# Altium footprint library diode.PCBLIB: 211 footprints (part 8 of 14)
Each footprint in its own frame and in the unit in brackets; x right, y up, seen from the top. Pads: shape width x height; smd on the part's side, far side on the other; paste and mask are expansions set on the pad; w line width, h text height; cw(c..) or ccw(c..) is an arc to the next point about the centre after c.
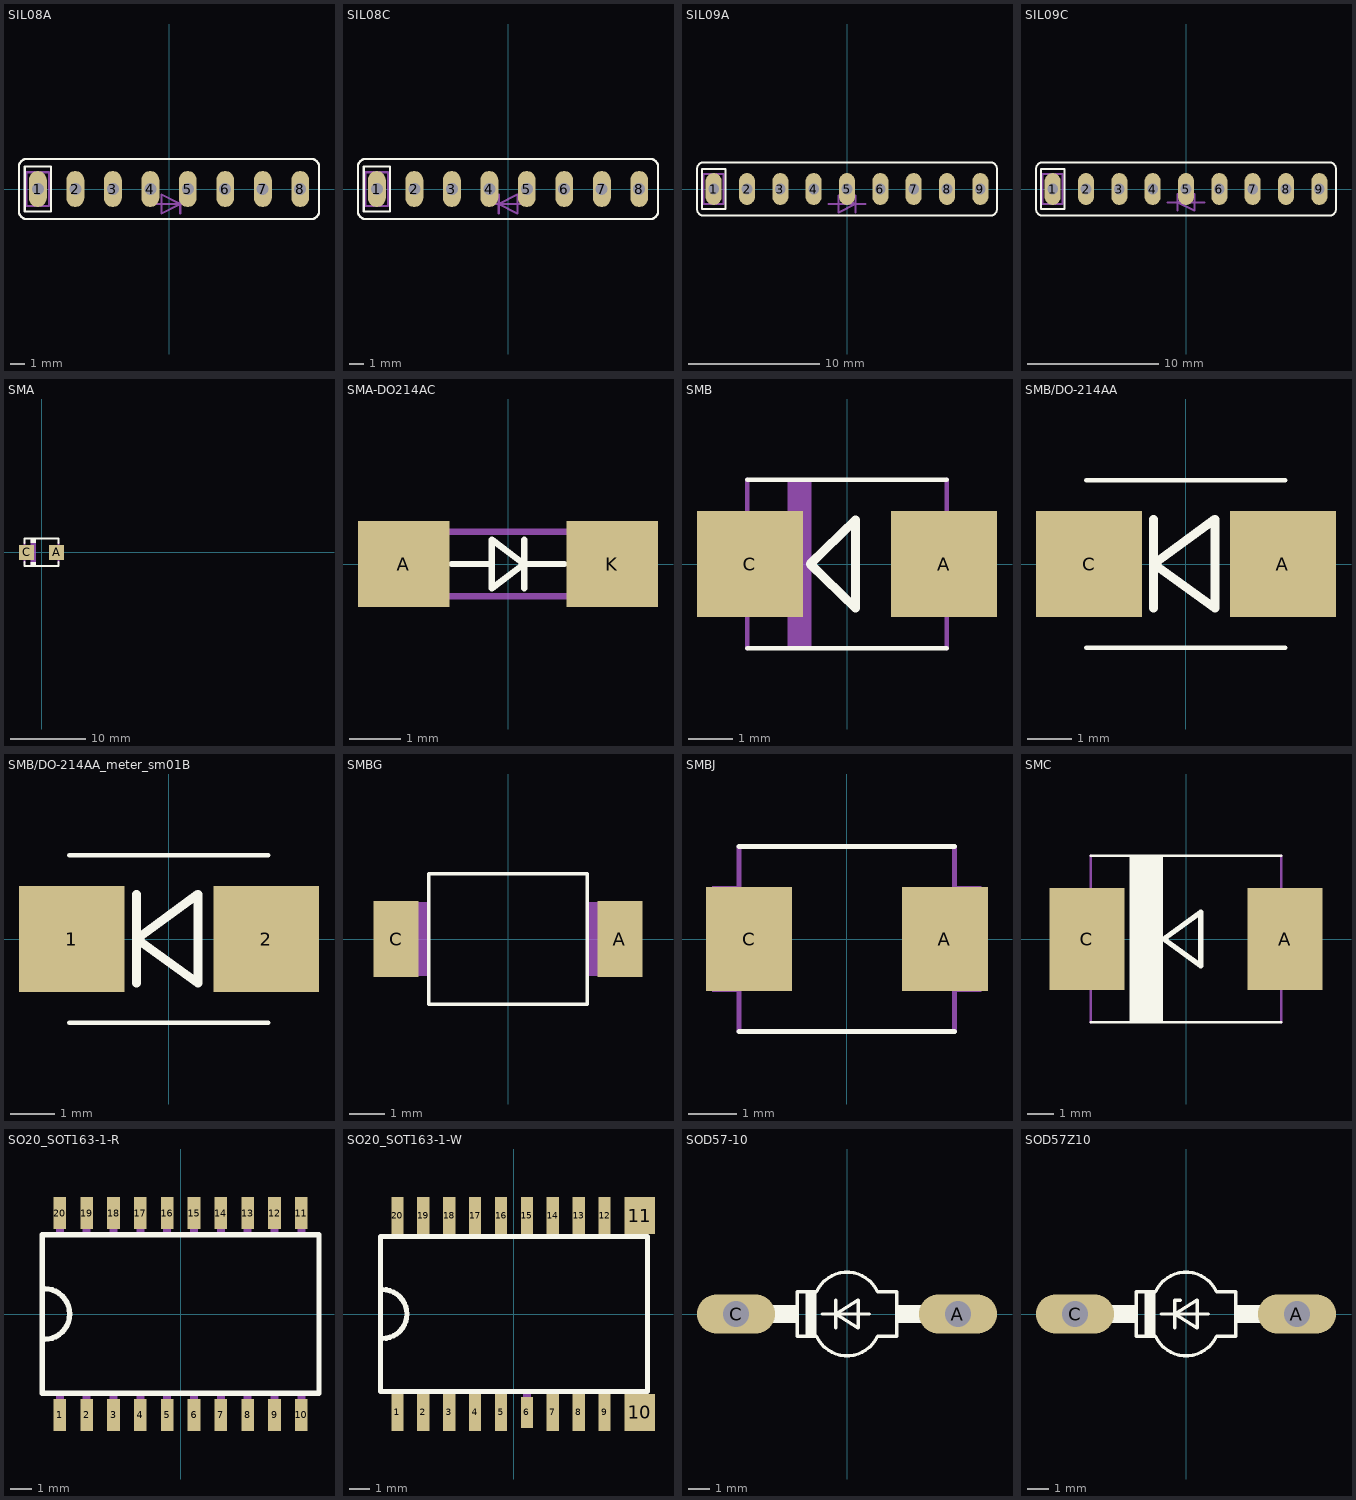
[diagram p7: the footprints below, top view; thin cyan lines are the x and y axes]

## SIL08A [mil]
pads (8):
  oval 48x96 hole 32: 1(-350,0) 2(-250,0) 3(-150,0) 4(-50,0) 5(50,0) 6(150,0) 7(250,0) 8(350,0)
Top Overlay:
  lines w6: -400,-60 ccw(c-380,-60) -380,-80 380,-80 ccw(c380,-60) 400,-60 400,60 ccw(c380,60) 380,80 -380,80 ccw(c-380,60) -400,60 -400,-60 ; -385,-60 -385,60 -315,60 -315,-60 -385,-60
Mechanical 4:
  lines w6: -50,-40 -20,-40 ; 30,-65 30,-40 ; 30,-15 30,-40 ; 60,-40 30,-40 ; -20,-40 30,-40 ; -20,-40 -20,-15 30,-40 ; -20,-40 -20,-65 30,-40 ; -380,-45 -380,45 -320,45 -320,-45 -380,-45

## SIL08C [mil]
pads (8):
  oval 48x96 hole 32: 1(-350,0) 2(-250,0) 3(-150,0) 4(-50,0) 5(50,0) 6(150,0) 7(250,0) 8(350,0)
Top Overlay:
  lines w6: -400,-60 ccw(c-380,-60) -380,-80 380,-80 ccw(c380,-60) 400,-60 400,60 ccw(c380,60) 380,80 -380,80 ccw(c-380,60) -400,60 -400,-60 ; -385,-60 -385,60 -315,60 -315,-60 -385,-60
Mechanical 4:
  lines w6: -55,-40 -25,-40 ; -25,-65 -25,-40 ; -25,-15 -25,-40 ; 55,-40 25,-40 ; -25,-40 25,-40 ; -25,-40 25,-65 25,-40 ; -25,-40 25,-15 25,-40 ; -380,-45 -380,45 -320,45 -320,-45 -380,-45

## SIL09A [mil]
pads (9):
  oval 48x96 hole 32: 1(-400,0) 2(-300,0) 3(-200,0) 4(-100,0) 5(0,0) 6(100,0) 7(200,0) 8(300,0) 9(400,0)
Top Overlay:
  lines w6: -450,-60 ccw(c-430,-60) -430,-80 430,-80 ccw(c430,-60) 450,-60 450,60 ccw(c430,60) 430,80 -430,80 ccw(c-430,60) -450,60 -450,-60 ; -435,-60 -435,60 -365,60 -365,-60 -435,-60
Mechanical 4:
  lines w6: -55,-45 -25,-45 ; 25,-70 25,-45 ; 25,-20 25,-45 ; 55,-45 25,-45 ; -25,-45 25,-45 ; -25,-45 -25,-20 25,-45 ; -25,-45 -25,-70 25,-45 ; -430,-45 -430,45 -370,45 -370,-45 -430,-45

## SIL09C [mil]
pads (9):
  oval 48x96 hole 32: 1(-400,0) 2(-300,0) 3(-200,0) 4(-100,0) 5(0,0) 6(100,0) 7(200,0) 8(300,0) 9(400,0)
Top Overlay:
  lines w6: -450,-60 ccw(c-430,-60) -430,-80 430,-80 ccw(c430,-60) 450,-60 450,60 ccw(c430,60) 430,80 -430,80 ccw(c-430,60) -450,60 -450,-60 ; -435,-60 -435,60 -365,60 -365,-60 -435,-60
Mechanical 4:
  lines w6: -55,-40 -25,-40 ; -25,-65 -25,-40 ; -25,-15 -25,-40 ; 55,-40 25,-40 ; -25,-40 25,-40 ; -25,-40 25,-65 25,-40 ; -25,-40 25,-15 25,-40 ; -430,-45 -430,45 -370,45 -370,-45 -430,-45

## SMA [mm]
pads (2):
  rect 2x2 smd: A(2,0) C(-2,0)
Top Overlay:
  rectangle: -1.5,1.25 -0.75,1.75
  rectangle: -1.5,-1.75 -0.75,-1.25
  lines w0.254: -2.25,-1.25 -2.25,-1.825 2.25,-1.825 cw(c19.549,-1.537) 2.25,-1.25 ; -2.25,1.25 -2.25,1.825 2.25,1.825 2.25,1.25
Mechanical 4:
  rectangle: 2.38,-0.825 2.8,0.8
  rectangle: -2.8,-0.8 -2.38,0.8
  rectangle: -1.5,-1.75 -0.75,1.75
  lines w0.254: -2.25,-1.25 -2.25,1.25 ; 2.25,-1.25 2.25,1.25

## SMA-DO214AC [mil]
pads (2):
  rect 70.87x66.93 smd: A(-80.71,0) K(80.71,0)
Top Overlay:
  lines w5: -43.75,0 -12.5,0 ; 12.5,-18.75 12.5,0 ; 12.5,18.75 12.5,0 ; 43.75,0 12.5,0 ; -12.5,0 -12.5,-18.75 12.5,0 ; -12.5,0 -12.5,18.75 12.5,0
Mechanical 4:
  rectangle: 62.5,-25 93.75,25
  rectangle: -93.75,-25 -62.5,25
  lines w5: -87.5,-25 87.5,-25 ; -87.5,25 87.5,25
3D body "User Library-DO-214AC(SMA).step": height 88.31, standoff -1.69, extent -108,-55 108,55

## SMB [mil]
pads (2):
  rect 94.49x94.49 smd: A(86.61,0) C(-86.61,0)
Top Overlay:
  lines w4: -89,-75 89,-75 ; -89,75 89,75
  lines w8: -32.68,0 7.6,-39.37 7.6,39.37 -32.68,0
Mechanical 4:
  rectangle: -53.15,-74.8 -31.5,74.8
  rectangle: 89,-43 110,43
  rectangle: -110,-43 -89,43
  lines w4: -89,-75 -89,75 ; 89,-75 89,75

## SMB/DO-214AA [mil]
pads (2):
  rect 95x95 smd: A(87,0) C(-86.61,0)
Top Overlay:
  lines w4: -89,-75 89,-75 ; -89,75 89,75
  lines w8: -28.74,-39.37 -28.74,40 ; -28.74,0 26,-39.37 26,40 -28.74,0
3D body "User Library-DIOM5539X24.step": height 96.46, standoff 1.09, extent -108.26,-76.76 108.28,76.78

## SMB/DO-214AA_meter_sm01B [mil]
pads (2):
  rect 94.49x94.49 smd: 1(-86.61,0) 2(87,0)
Top Overlay:
  lines w4: -89,-75 89,-75 ; -89,75 89,75
  lines w8: -28.74,-39.37 -28.74,40 ; -28.74,0 26,40 26,-39.37 -28.74,0
3D body "User Library-DIOM5539X24.step": height 96.46, standoff 1.09, extent -108.26,-76.76 108.28,76.78

## SMBG [mm]
pads (2):
  rect 1.27x2.16 smd: A(3.17,0) C(-3.17,0)
Top Overlay:
  lines w0.102: -2.24,-1.85 -2.24,1.85 2.24,1.85 2.24,-1.85 -2.24,-1.85
Mechanical 4:
  rectangle: 2.24,-1.05 3.24,1.05
  rectangle: -3.24,-1.05 -2.23,1.05

## SMBJ [mm]
pads (2):
  rect 1.78x2.16 smd: A(2.04,0) C(-2.03,0)
Top Overlay:
  lines w0.102: -2.24,-1.92 2.24,-1.92 ; -2.24,1.92 2.24,1.92
Mechanical 4:
  rectangle: -2.8,-1.1 -2.25,1.1
  rectangle: 2.25,-1.1 2.8,1.1
  lines w0.102: -2.24,-1.92 -2.24,1.92 ; 2.24,-1.92 2.24,1.92

## SMC [mm]
pads (2):
  rect 2.8x3.8 smd: A(3.7,0) C(-3.7,0)
Top Overlay:
  rectangle: -2.1,-3.1 -0.85,3.1
  lines w0.102: -3.561,-3.105 3.561,-3.105 ; -3.561,3.105 3.561,3.105
  lines w0.203: -0.83,0 0.543,-1 0.543,1 -0.83,0
Mechanical 4:
  rectangle: 3.561,-1.092 4.094,1.092
  rectangle: -4.094,-1.092 -3.561,1.092
  lines w0.102: -3.561,-3.105 -3.561,3.105 ; 3.561,-3.105 3.561,3.105

## SO20_SOT163-1-R [mil]
pads (20):
  rect 23.62x59.06 smd: 1(-225,-188.19) 2(-175,-188.19) 3(-125,-188.19) 4(-75,-188.19) 5(-25,-188.19) 6(25,-188.19) 7(75,-188.19) 8(125,-188.19) 9(175,-188.19) 10(225,-188.19) 11(225,188.19) 12(175,188.19) 13(125,188.19) 14(75,188.19) 15(25,188.19) 16(-25,188.19) 17(-75,188.19) 18(-125,188.19) 19(-175,188.19) 20(-225,188.19)
Top Overlay:
  lines w10: -253.94,-47.24 ccw(c-253.94,0) -253.94,47.24 ; -257.87,-147.64 -257.87,147.64 257.87,147.64 257.87,-147.64 -257.87,-147.64
Mechanical 4:
  rectangle: -232.5,152.5 -217.5,197.5
  rectangle: -182.5,152.5 -167.5,197.5
  rectangle: -132.5,152.5 -117.5,197.5
  rectangle: -82.5,152.5 -67.5,197.5
  rectangle: -32.5,152.5 -17.5,197.5
  rectangle: 17.5,152.5 32.5,197.5
  rectangle: 67.5,152.5 82.5,197.5
  rectangle: 117.5,152.5 132.5,197.5
  rectangle: 167.5,152.5 182.5,197.5
  rectangle: 217.5,152.5 232.5,197.5
  rectangle: 217.5,-197.5 232.5,-152.5
  rectangle: 167.5,-197.5 182.5,-152.5
  rectangle: 117.5,-197.5 132.5,-152.5
  rectangle: 67.5,-197.5 82.5,-152.5
  rectangle: 17.5,-197.5 32.5,-152.5
  rectangle: -32.5,-197.5 -17.5,-152.5
  rectangle: -82.5,-197.5 -67.5,-152.5
  rectangle: -132.5,-197.5 -117.5,-152.5
  rectangle: -182.5,-197.5 -167.5,-152.5
  rectangle: -232.5,-197.5 -217.5,-152.5

## SO20_SOT163-1-W [mil]
pads (20):
  rect 23.62x70.87 smd: 1(-225,-190.16) 2(-175,-190.16) 3(-125,-190.16) 4(-75,-190.16) 5(-25,-190.16) 7(75,-190.16) 8(125,-190.16) 9(175,-190.16) 12(175,190.16) 13(125,190.16) 14(75,190.16) 15(25,190.16) 16(-25,190.16) 17(-75,190.16) 18(-125,190.16) 19(-175,190.16) 20(-225,190.16)
  rect 23.62x59.06 smd: 6(25,-190.16)
  rect 59.06x70.87 smd: 10(242.72,-190.16) 11(242.72,190.16)
Top Overlay:
  lines w10: -253.94,-47.24 ccw(c-253.94,0) -253.94,47.24 ; -257.87,-149.61 -257.87,149.61 257.87,149.61 257.87,-149.61 -257.87,-149.61
Mechanical 4:
  rectangle: -232.5,154.47 -217.5,199.47
  rectangle: -182.5,154.47 -167.5,199.47
  rectangle: -132.5,154.47 -117.5,199.47
  rectangle: -82.5,154.47 -67.5,199.47
  rectangle: -32.5,154.47 -17.5,199.47
  rectangle: 17.5,154.47 32.5,199.47
  rectangle: 67.5,154.47 82.5,199.47
  rectangle: 117.5,154.47 132.5,199.47
  rectangle: 167.5,154.47 182.5,199.47
  rectangle: 217.5,154.47 232.5,199.47
  rectangle: 217.5,-199.47 232.5,-154.47
  rectangle: 167.5,-199.47 182.5,-154.47
  rectangle: 117.5,-199.47 132.5,-154.47
  rectangle: 67.5,-199.47 82.5,-154.47
  rectangle: 17.5,-199.47 32.5,-154.47
  rectangle: -32.5,-199.47 -17.5,-154.47
  rectangle: -82.5,-199.47 -67.5,-154.47
  rectangle: -132.5,-199.47 -117.5,-154.47
  rectangle: -182.5,-199.47 -167.5,-154.47
  rectangle: -232.5,-199.47 -217.5,-154.47

## SOD57-10 [mil]
pads (2):
  oval 141x70.5 hole 47: A(200,0) C(-200,0)
Top Overlay:
  rectangle: -75,-40 -55,40
  rectangle: -151,-16 -90,16
  rectangle: 90,-16 151,16
  lines w6: -45,0 -20,0 ; -20,-25 -20,0 ; -20,25 -20,0 ; 40,0 -20,0 ; -20,0 20,-25 20,25 -20,0 ; -90,-40 -90,40 -55,40 cw(c0,15) 55,40 90,40 90,-40 55,-40 cw(c0,-15) -55,-40 -90,-40
Mechanical 4:
  lines w32: -200,0 -150,0 ; 150,0 200,0

## SOD57Z10 [mil]
pads (2):
  oval 141x70.5 hole 47: A(200,0) C(-200,0)
Top Overlay:
  rectangle: 90,-16 151,16
  rectangle: -151,-16 -90,16
  rectangle: -75,-40 -55,40
  lines w6: -45,0 -20,0 ; -20,-25 -20,0 ; -10,25 -20,25 -20,0 ; 40,0 -20,0 ; -20,0 20,25 20,-25 -20,0 ; -90,-40 -55,-40 ccw(c0,-15) 55,-40 90,-40 90,40 55,40 ccw(c0,15) -55,40 -90,40 -90,-40
Mechanical 4:
  lines w32: -200,0 -150,0 ; 150,0 200,0